# EAGLE library part GPS_FGPMMOPA6H (library microbuilder)
GPS Module - MTK MT3339 Chipset, -165dBm sensitivity, 22 channels, 10Hz, auto-select external antenna options
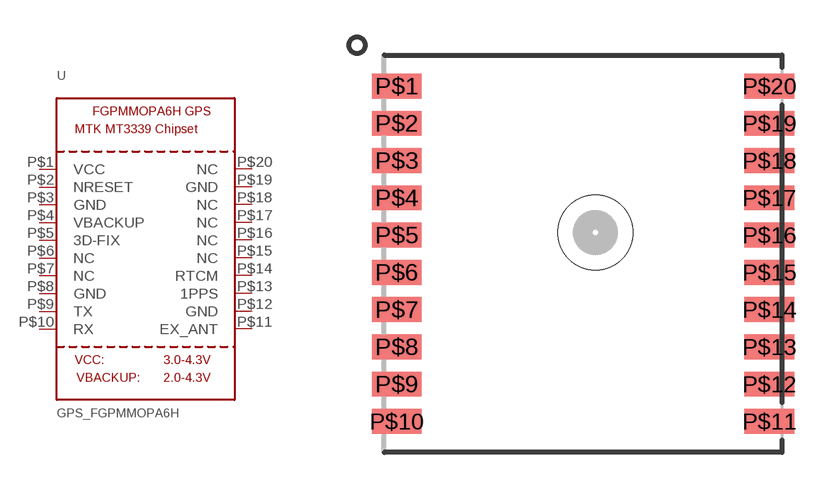
[diagram p185: symbol with the pads of FGPMMOPA6H; footprint FGPMMOPA6H]

Designator prefix U

## GPS_FGPMMOPA6H  [FGPMMOPA6H]
P$1  VCC
P$2  NRESET
P$3  GND
P$4  VBACKUP
P$5  3D-FIX
P$6  NC
P$7  NC
P$8  GND
P$9  TX
P$10  RX
P$11  EX_ANT
P$12  GND
P$13  1PPS
P$14  RTCM
P$15  NC
P$16  NC
P$17  NC
P$18  NC
P$19  GND
P$20  NC

## Footprint FGPMMOPA6H (pad centres in mm)
smd 2 x 1: P$1 -7.5,6.75; P$2 -7.5,5.25; P$3 -7.5,3.75; P$4 -7.5,2.25; P$5 -7.5,0.75; P$6 -7.5,-0.75; P$7 -7.5,-2.25; P$8 -7.5,-3.75; P$9 -7.5,-5.25; P$10 -7.5,-6.75; P$11 7.5,-6.75; P$12 7.5,-5.25; P$13 7.5,-3.75; P$14 7.5,-2.25; P$15 7.5,-0.75; P$16 7.5,0.75; P$17 7.5,2.25; P$18 7.5,3.75; P$19 7.5,5.25; P$20 7.5,6.75
hole 3 at 0.5,0.85